# EAGLE library part S-DPDT (library lc-meter)
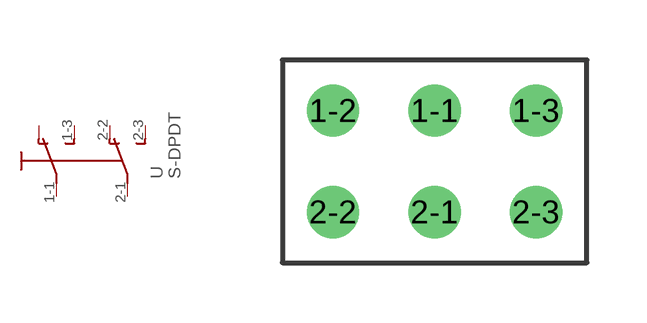
[diagram p1: symbol with the pads of DPDT; footprint DPDT]

Designator prefix -

## S-DPDT  [DPDT]
1-1  1-1  pas
1-2  1-2  pas
1-3  1-3  pas
2-1  2-1  pas
2-2  2-2  pas
2-3  2-3  pas

## Footprint DPDT (pad centres in mm)
drill 0.8: 1-1 0,1.27; 1-2 -2.54,1.27; 1-3 2.54,1.27; 2-1 0,-1.27; 2-2 -2.54,-1.27; 2-3 2.54,-1.27